# EAGLE library part MIC5367 (library jobygnss)
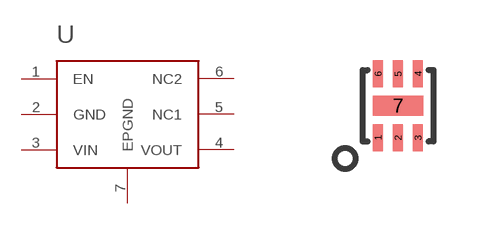
[diagram p2: symbol with the pads of MIC5367; footprint MIC5367]

Designator prefix -

## MIC5367  [MIC5367]
1  EN
2  GND
3  VIN
4  VOUT
5  NC1
6  NC2
7  EPGND

## Footprint MIC5367 (pad centres in mm)
smd 0.25 x 0.686: 1 -0.5,-0.8; 2 0,-0.8; 3 0.5,-0.8; 4 0.5,0.8; 5 0,0.8; 6 -0.5,0.8
smd 1.27 x 0.508: 7 0,0